# Altium schematic symbol library Schlib1.SchLib: 2 symbols
Pins are listed as number, name and electrical type; pins without a type are passive.

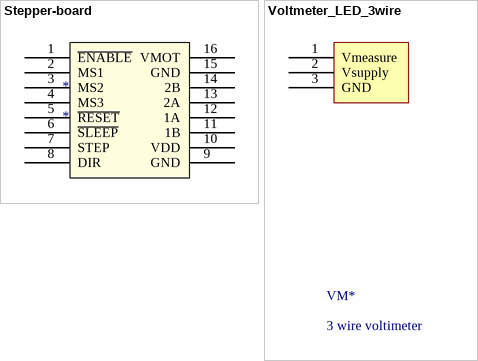
[diagram p0: symbols Stepper-board to Voltmeter_LED_3wire]

## Stepper-board
designator *
footprint stepper-board
pins: 1 ~{ENABLE}, 2 MS1, 3 MS2, 4 MS3, 5 ~{RESET}, 6 ~{SLEEP}, 7 STEP, 8 DIR, 9 GND, 10 VDD, 11 1B, 12 1A, 13 2A, 14 2B, 15 GND, 16 VMOT

## Voltmeter_LED_3wire
designator VM*, comment 3 wire voltimeter
footprint led_meter_0.36
pins: 1 Vmeasure, 2 Vsupply, 3 GND